# Altium schematic symbol library MRF24J40MB.SchLib: 1 symbol
Pins are listed as number, name and electrical type; pins without a type are passive.

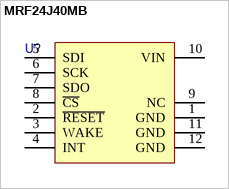
[diagram p0: symbol MRF24J40MB]

## MRF24J40MB
designator U?  (value not drawn)
pins: 1 GND, 2 ~{RESET}, 3 WAKE, 4 INT, 5 SDI, 6 SCK, 7 SDO, 8 ~{CS}, 9 NC, 10 VIN, 11 GND, 12 GND